# Altium integrated library 74LS47N.IntLib: 1 symbol
Pins are listed as number, name and electrical type; pins without a type are passive.

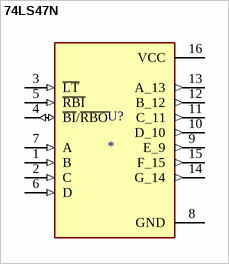
[diagram p0: symbol 74LS47N]

## 74LS47N
designator U?
IC DRVR BCD-7 SEGMENT 16SO; MF: Texas Instruments; MP: 74LS47N; SnapEDA_Link: https://www.snapeda.com/parts/74LS47N/Texas+Instruments/view-part/?ref=snap; Package: PDIP-16 Texas Instruments; Value: *; Check_prices: https://www.snapeda.com/parts/74LS47N/Texas+Instruments/view-part/?ref=eda
footprint DIP794W45P254L1930H508Q16
pins: 1 B (in), 2 C (in), 3 ~{LT} (in), 4 ~{BI}/~{RBO} (io), 5 ~{RBI} (in), 6 D (in), 7 A (in), 8 GND (power), 9 E_9 (out), 10 D_10 (out), 11 C_11 (out), 12 B_12 (out), 13 A_13 (out), 14 G_14 (out), 15 F_15 (out), 16 VCC (power)